# EAGLE library part WSM-BL241-ADA-008 (library MBN52832)
Murata Bluetooth Module WSM-BL241-ADA-008 Datasheet: MBN52832 Data Sheet, v0.7, 03/15/2017
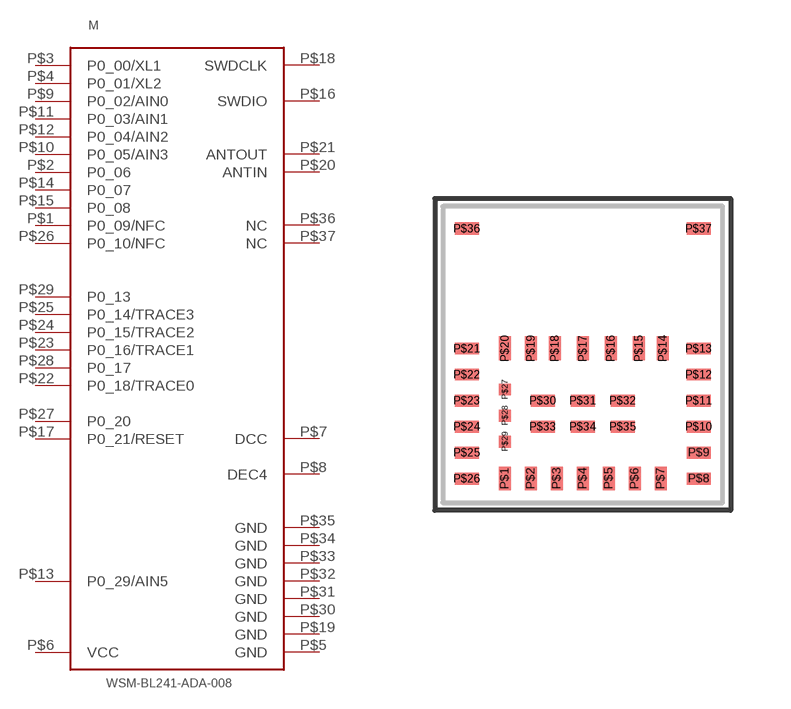
[diagram p0: symbol with the pads of WSM-BL241-ADA-008; footprint WSM-BL241-ADA-008]

Designator prefix M

## WSM-BL241-ADA-008  [WSM-BL241-ADA-008]
P$1  P0_09/NFC
P$2  P0_06
P$3  P0_00/XL1
P$4  P0_01/XL2
P$5  GND
P$6  VCC
P$7  DCC
P$8  DEC4
P$9  P0_02/AIN0
P$10  P0_05/AIN3
P$11  P0_03/AIN1
P$12  P0_04/AIN2
P$13  P0_29/AIN5
P$14  P0_07
P$15  P0_08
P$16  SWDIO
P$17  P0_21/RESET
P$18  SWDCLK
P$19  GND
P$20  ANTIN
P$21  ANTOUT
P$22  P0_18/TRACE0
P$23  P0_16/TRACE1
P$24  P0_15/TRACE2
P$25  P0_14/TRACE3
P$26  P0_10/NFC
P$27  P0_20
P$28  P0_17
P$29  P0_13
P$30  GND
P$31  GND
P$32  GND
P$33  GND
P$34  GND
P$35  GND
P$36  NC
P$37  NC

## Footprint WSM-BL241-ADA-008 (pad centres in mm)
Murata Module WSM-BL241-ADA-008
smd 0.3 x 0.6: P$1 -1.95,0.6; P$2 -1.3,0.6; P$3 -0.65,0.6; P$4 0,0.6; P$5 0.65,0.6; P$6 1.3,0.6; P$7 1.95,0.6; P$14 2,3.85; P$15 1.4,3.85; P$16 0.7,3.85; P$17 0,3.85; P$18 -0.7,3.85; P$19 -1.3,3.85; P$20 -1.95,3.85
smd 0.6 x 0.3: P$8 2.9,0.6; P$9 2.9,1.25; P$10 2.9,1.9; P$11 2.9,2.55; P$12 2.9,3.2; P$13 2.9,3.85; P$21 -2.9,3.85; P$22 -2.9,3.2; P$23 -2.9,2.55; P$24 -2.9,1.9; P$25 -2.9,1.25; P$26 -2.9,0.6; P$30 -1,2.55; P$31 0,2.55; P$32 1,2.55; P$33 -1,1.9; P$34 0,1.9; P$35 1,1.9; P$36 -2.9,6.85; P$37 2.9,6.85
smd 0.3 x 0.3: P$27 -1.95,2.825; P$28 -1.95,2.175; P$29 -1.95,1.525